# Altium footprint library J1B1211CCD.PcbLib: 1 footprints
Each footprint in its own frame and in the unit in brackets; x right, y up, seen from the top. Pads: shape width x height; smd on the part's side, far side on the other; paste and mask are expansions set on the pad; w line width, h text height; cw(c..) or ccw(c..) is an arc to the next point about the centre after c.
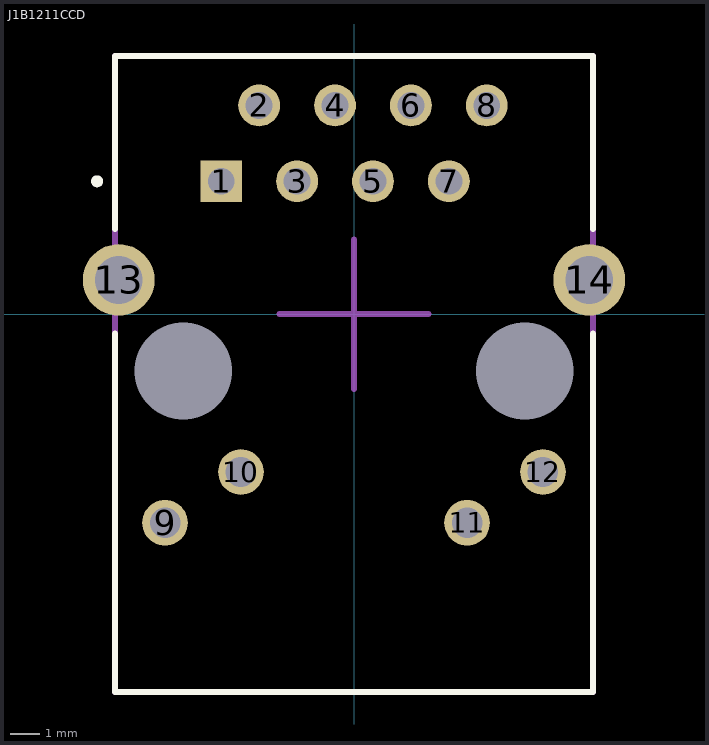
[diagram p0: the footprint, top view; thin cyan lines are the x and y axes]

## J1B1211CCD [mm]
pads (16):
  rect 1.4x1.4 / inner round 1.4 / far side rect 1.4x1.4 hole 0.9 mask+0.051: 1(-4.445,4.445)
  round 1.4 hole 0.9 mask+0.051: 2(-3.175,6.985) 3(-1.905,4.445) 4(-0.635,6.985) 5(0.635,4.445) 6(1.905,6.985) 7(3.175,4.445) 8(4.445,6.985)
  round 1.53 hole 1.02 mask+0.051: 9(-6.325,-6.985) 10(-3.785,-5.285) 11(3.785,-6.985) 12(6.325,-5.285)
  round 2.4 hole 1.6 mask+0.051: 13(-7.875,1.145) 14(7.875,1.145)
  round 0 hole 3.25 unplated: ""(-5.715,-1.905) ""(5.715,-1.905)
Top Overlay:
  lines w0.2: -8,-0.655 -8,-12.655 8,-12.655 8,-0.655 ; -8,2.845 -8,8.645 8,8.645 8,2.845 ; -8.6,4.345 ccw(c-8.6,4.445) -8.6,4.545 ccw(c-8.6,4.445) -8.6,4.345
Mechanical 13:
  lines w0.2: -8,-12.655 -8,8.645 8,8.645 8,-12.655 -8,-12.655
Mechanical 15:
  lines w0.2: -2.5,0 0,0 ; 0,-2.5 0,0 ; 0,2.5 0,0 ; 2.5,0 0,0
3D body: height 13.35, standoff 0, extent -8,-12.655 8,8.645